# EAGLE library part SMD-RGB-HI-LIGHT(6P-L5.0*W5.0*H1.5MM) (library 5050RGB SparkFun)
304090049 Check availability <https://pricing.snapeda.com/parts/5050RGB/SparkFun%20Electronics/view-part?ref=eda>
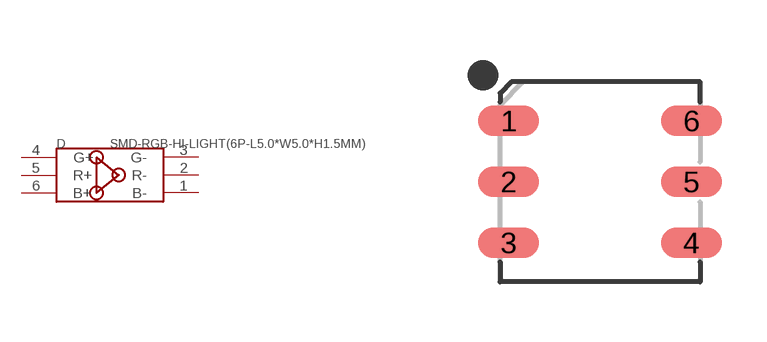
[diagram p0: symbol with the pads of LED6-SMD-5050; footprint LED6-SMD-5050]

Designator prefix D

## SMD-RGB-HI-LIGHT(6P-L5.0W5.0H1.5MM)-5050 (Availability: Not in stock; Check_prices: https://www.snapeda.com/parts/5050RGB/SparkFun+Electronics/view-part/?ref=eda; Description: Addressable Lighting - 1 LED Discrete PWM Red, Green, Blue (RGB) 5.00mm L x 5.00mm W; MF: SparkFun Electronics; MP: 5050RGB; Package: Package; Price: None; SnapEDA_Link: https://www.snapeda.com/parts/5050RGB/SparkFun+Electronics/view-part/?ref=snap)  [LED6-SMD-5050]
1  B-
2  R-
3  G-
4  G+
5  R+
6  B+

## Footprint LED6-SMD-5050 (pad centres in mm)
smd 1.524 x 0.762: 1 -2.286,1.524; 2 -2.286,0; 3 -2.286,-1.524; 4 2.286,-1.524; 5 2.286,0; 6 2.286,1.524